# Altium schematic symbol library SL_Varistors.SchLib: 1 symbol
Pins are listed as number, name and electrical type; pins without a type are passive.

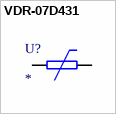
[diagram p0: symbol VDR-07D431]

## VDR-07D431
designator U?
Varistor, 275V; Manufacturer_Name: VDR-07D431; Datasheet Link: https://datasheet.lcsc.com/lcsc/2410121706_VDR-VDR-07D390K8-4_C19711172.pdf; Height: 11.5mm; Mouser Part Number: 667-ERZ-V07D431
footprint VDR-07D
pins: 1, 2